# Altium footprint library PG-TISON-8-2.PcbLib: 1 footprints
Each footprint in its own frame and in the unit in brackets; x right, y up, seen from the top. Pads: shape width x height; smd on the part's side, far side on the other; paste and mask are expansions set on the pad; w line width, h text height; cw(c..) or ccw(c..) is an arc to the next point about the centre after c.
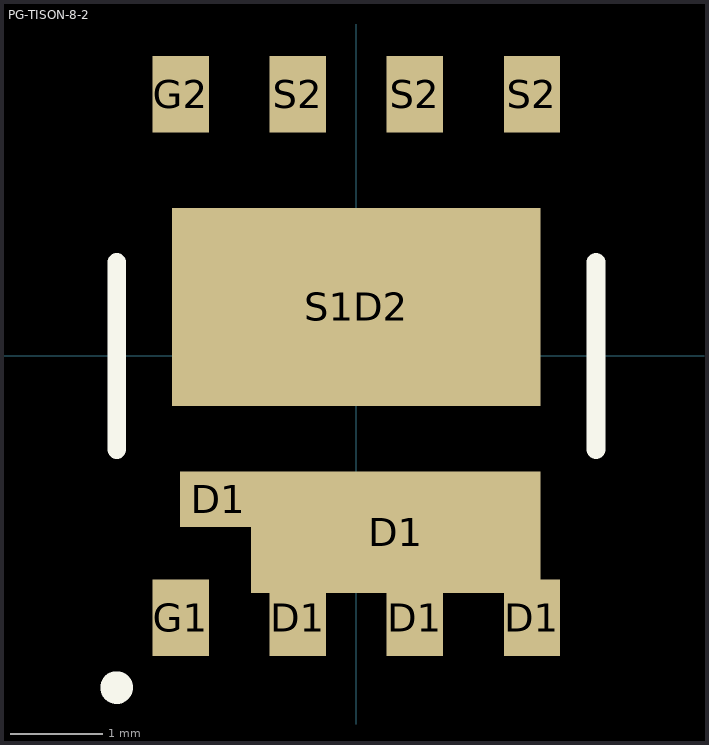
[diagram p0: the footprint, top view; thin cyan lines are the x and y axes]

## PG-TISON-8-2 [mm] "Infineon TISON Dual Mosfet Merged S1D2"
pads (11):
  rect 0.83x0.6 smd paste-0.1: D1(-1.5,-1.555)
  rect 0.61x0.83 smd: D1(-0.635,-2.84) D1(0.635,-2.84) D1(1.905,-2.84) G1(-1.905,-2.84) G2(-1.905,2.84) S2(-0.635,2.84) S2(0.635,2.84) S2(1.905,2.84)
  rect 3.14x1.32 smd paste-0.3: D1(0.43,-1.915)
  rect 4x2.15 smd paste-0.3: S1D2(0,0.53)
Top Overlay:
  circle w0.254: c-2.6,-3.6 r0.05
  lines w0.203: -2.6,-1.016 -2.6,1.016 ; 2.6,-1.016 2.6,1.016
3D body "User Library-TISON8.STEP": height 1.03, standoff -0.01, extent -2.51,-3.01 2.51,3.01